# EAGLE library part ARDUINO_MEGA (library Subsystem Main)
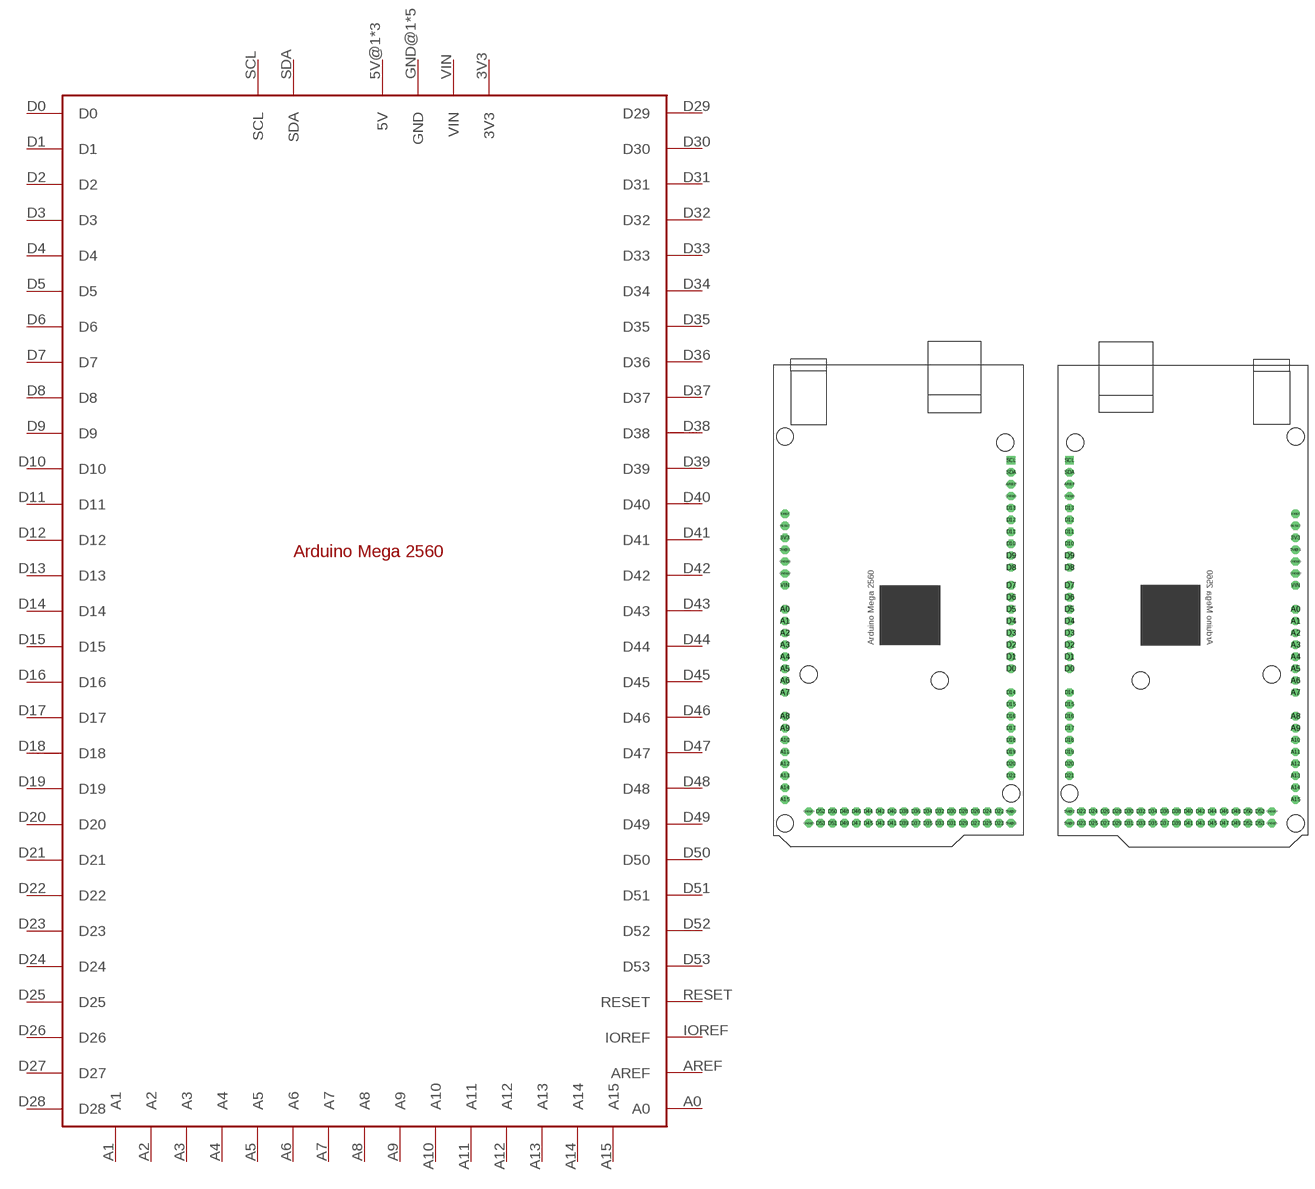
[diagram p2: symbol with the pads of ARDUINO_MEGA; footprints ARDUINO_MEGA, ARDUINO_MEGA_MIRROR]

Designator prefix -

## ARDUINO_MEGA  [ARDUINO_MEGA]
3V3  3V3  pwr
5V@1  5V  pwr
5V@2  5V  pwr
5V@3  5V  pwr
A0  A0
A1  A1
A2  A2
A3  A3
A4  A4
A5  A5
A6  A6
A7  A7
A8  A8
A9  A9
A10  A10
A11  A11
A12  A12
A13  A13
A14  A14
A15  A15
AREF  AREF
D0  D0
D1  D1
D2  D2
D3  D3
D4  D4
D5  D5
D6  D6
D7  D7
D8  D8
D9  D9
D10  D10
D11  D11
D12  D12
D13  D13
D14  D14
D15  D15
D16  D16
D17  D17
D18  D18
D19  D19
D20  D20
D21  D21
D22  D22
D23  D23
D24  D24
D25  D25
D26  D26
D27  D27
D28  D28
D29  D29
D30  D30
D31  D31
D32  D32
D33  D33
D34  D34
D35  D35
D36  D36
D37  D37
D38  D38
D39  D39
D40  D40
D41  D41
D42  D42
D43  D43
D44  D44
D45  D45
D46  D46
D47  D47
D48  D48
D49  D49
D50  D50
D51  D51
D52  D52
D53  D53
GND@1  GND  pwr
GND@2  GND  pwr
GND@3  GND  pwr
GND@4  GND  pwr
GND@5  GND  pwr
IOREF  IOREF
RESET  RESET
SCL  SCL
SDA  SDA
VIN  VIN  pwr

## ARDUINO_MEGAMIRROR  [ARDUINO_MEGA_MIRROR]
Pads as for ARDUINO_MEGA

## Footprint ARDUINO_MEGA (pad centres in mm)
drill 0.9 pad 1.778 octagon: 3V3 -24.13,13.97; 5V@1 -24.13,11.43; 5V@2 24.13,-44.45; 5V@3 24.13,-46.99; A0 -24.13,-1.27; A1 -24.13,-3.81; A2 -24.13,-6.35; A3 -24.13,-8.89; A4 -24.13,-11.43; A5 -24.13,-13.97; A6 -24.13,-16.51; A7 -24.13,-19.05; A8 -24.13,-24.13; A9 -24.13,-26.67; A10 -24.13,-29.21; A11 -24.13,-31.75; A12 -24.13,-34.29; A13 -24.13,-36.83; A14 -24.13,-39.37; A15 -24.13,-41.91; AREF 24.13,25.4; D0 24.13,-13.97; D1 24.13,-11.43; D2 24.13,-8.89; D3 24.13,-6.35; D4 24.13,-3.81; D5 24.13,-1.27; D6 24.13,1.27; D7 24.13,3.81; D8 24.13,7.62; D9 24.13,10.16; D10 24.13,12.7; D11 24.13,15.24; D12 24.13,17.78; D13 24.13,20.32; D14 24.13,-19.05; D15 24.13,-21.59; D16 24.13,-24.13; D17 24.13,-26.67; D18 24.13,-29.21; D19 24.13,-31.75; D20 24.13,-34.29; D21 24.13,-36.83; D22 21.59,-44.45; D23 21.59,-46.99; D24 19.05,-44.45; D25 19.05,-46.99; D26 16.51,-44.45; D27 16.51,-46.99; D28 13.97,-44.45; D29 13.97,-46.99; D30 11.43,-44.45; D31 11.43,-46.99; D32 8.89,-44.45; D33 8.89,-46.99; D34 6.35,-44.45; D35 6.35,-46.99; D36 3.81,-44.45; D37 3.81,-46.99; D38 1.27,-44.45; D39 1.27,-46.99; D40 -1.27,-44.45; D41 -1.27,-46.99; D42 -3.81,-44.45; D43 -3.81,-46.99; D44 -6.35,-44.45; D45 -6.35,-46.99; D46 -8.89,-44.45; D47 -8.89,-46.99; D48 -11.43,-44.45; D49 -11.43,-46.99; D50 -13.97,-44.45; D51 -13.97,-46.99; D52 -16.51,-44.45; D53 -16.51,-46.99; GND@1 24.13,22.86; GND@2 -24.13,6.35; GND@3 -24.13,8.89; GND@4 -19.05,-44.45; GND@5 -19.05,-46.99; IOREF -24.13,19.05; RESET -24.13,16.51; SDA 24.13,27.94; VIN -24.13,3.81
drill 0.9 pad 1.778 square: SCL 24.13,30.48

## Footprint ARDUINO_MEGA_MIRROR (pad centres in mm)
drill 0.9 pad 1.778 octagon: 3V3 22.86,15.24; 5V@1 22.86,12.7; 5V@2 -25.4,-43.18; 5V@3 -25.4,-45.72; A0 22.86,0; A1 22.86,-2.54; A2 22.86,-5.08; A3 22.86,-7.62; A4 22.86,-10.16; A5 22.86,-12.7; A6 22.86,-15.24; A7 22.86,-17.78; A8 22.86,-22.86; A9 22.86,-25.4; A10 22.86,-27.94; A11 22.86,-30.48; A12 22.86,-33.02; A13 22.86,-35.56; A14 22.86,-38.1; A15 22.86,-40.64; AREF -25.4,26.67; D0 -25.4,-12.7; D1 -25.4,-10.16; D2 -25.4,-7.62; D3 -25.4,-5.08; D4 -25.4,-2.54; D5 -25.4,0; D6 -25.4,2.54; D7 -25.4,5.08; D8 -25.4,8.89; D9 -25.4,11.43; D10 -25.4,13.97; D11 -25.4,16.51; D12 -25.4,19.05; D13 -25.4,21.59; D14 -25.4,-17.78; D15 -25.4,-20.32; D16 -25.4,-22.86; D17 -25.4,-25.4; D18 -25.4,-27.94; D19 -25.4,-30.48; D20 -25.4,-33.02; D21 -25.4,-35.56; D22 -22.86,-43.18; D23 -22.86,-45.72; D24 -20.32,-43.18; D25 -20.32,-45.72; D26 -17.78,-43.18; D27 -17.78,-45.72; D28 -15.24,-43.18; D29 -15.24,-45.72; D30 -12.7,-43.18; D31 -12.7,-45.72; D32 -10.16,-43.18; D33 -10.16,-45.72; D34 -7.62,-43.18; D35 -7.62,-45.72; D36 -5.08,-43.18; D37 -5.08,-45.72; D38 -2.54,-43.18; D39 -2.54,-45.72; D40 0,-43.18; D41 0,-45.72; D42 2.54,-43.18; D43 2.54,-45.72; D44 5.08,-43.18; D45 5.08,-45.72; D46 7.62,-43.18; D47 7.62,-45.72; D48 10.16,-43.18; D49 10.16,-45.72; D50 12.7,-43.18; D51 12.7,-45.72; D52 15.24,-43.18; D53 15.24,-45.72; GND@1 -25.4,24.13; GND@2 22.86,7.62; GND@3 22.86,10.16; GND@4 17.78,-43.18; GND@5 17.78,-45.72; IOREF 22.86,20.32; RESET 22.86,17.78; SDA -25.4,29.21; VIN 22.86,5.08
drill 0.9 pad 1.778 square: SCL -25.4,31.75